# EAGLE library part ATTINY85 (library darnok_arduino)
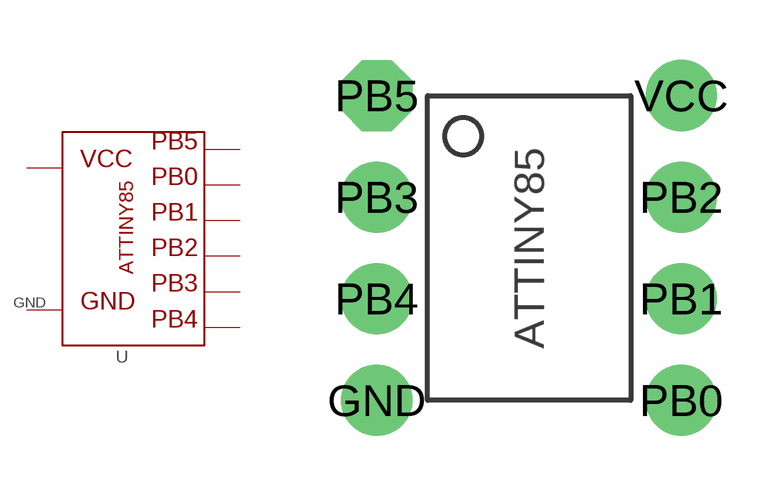
[diagram p1: symbol with the pads of ATTINY85; footprint ATTINY85]

Designator prefix -

## ATTINY85  [ATTINY85]
GND  GND  pwr
PB0  PB0
PB1  PB1
PB2  PB2
PB3  PB3
PB4  PB4
PB5  PB5
VCC  VCC  pwr

## Footprint ATTINY85 (pad centres in mm)
drill 1.016 pad 1.778: GND -3.81,-3.81; PB0 3.81,-3.81; PB1 3.81,-1.27; PB2 3.81,1.27; PB3 -3.81,1.27; PB4 -3.81,-1.27; VCC 3.81,3.81
drill 1.016 pad 1.778 octagon: PB5 -3.81,3.81